# Altium footprint library 110-00315-D_B1-DevKit.PcbLib: 70 footprints (part 5 of 5)
Each footprint in its own frame and in the unit in brackets; x right, y up, seen from the top. Pads: shape width x height; smd on the part's side, far side on the other; paste and mask are expansions set on the pad; w line width, h text height; cw(c..) or ccw(c..) is an arc to the next point about the centre after c.
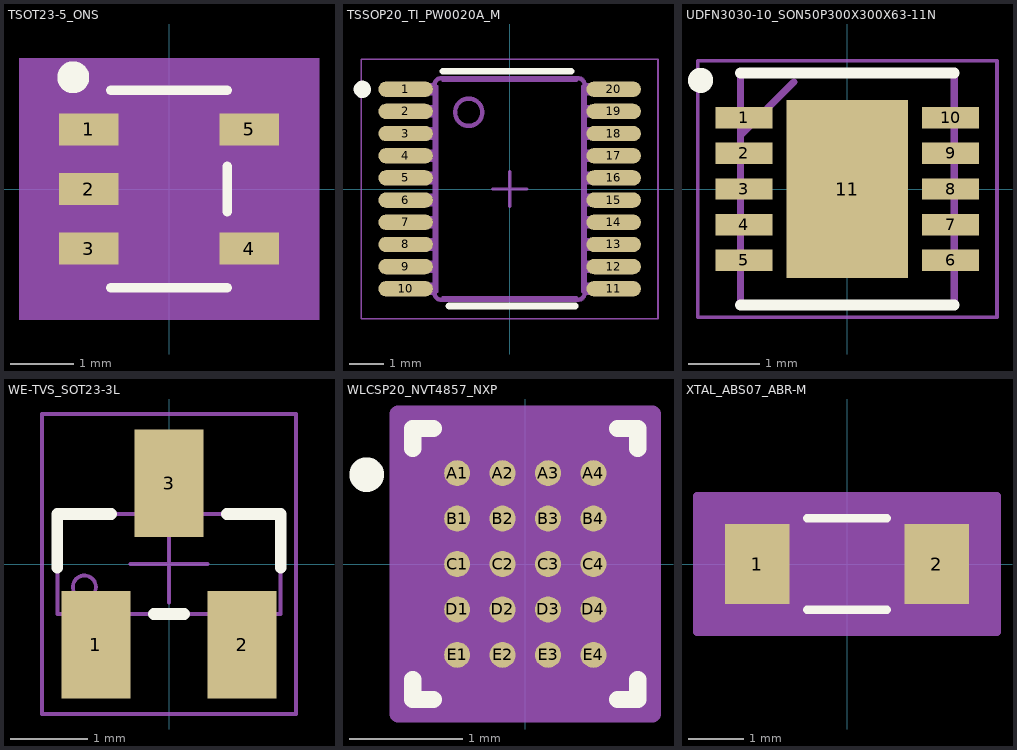
[diagram p4: the footprints below, top view; thin cyan lines are the x and y axes]

## TSOT23-5_ONS [mil]
height 337.8
pads (5):
  rect 37.5x20 smd paste+0 mask+4: 1(-50.25,37.4) 2(-50.25,0) 3(-50.25,-37.4) 4(50.25,-37.4) 5(50.25,37.4)
Top Overlay:
  circle w10: c-60,70 r5
  lines w6: -36.5,-62 36.5,-62 ; -36.5,62 36.5,62 ; 36.5,-14.3 36.5,14.3
Mechanical 5:
  region: 94,-82 -94,-82 -94,82 94,82
Mechanical 13:
  lines w0: -12,57 ccw(c0,57) 12,57
  lines w1: -55,-46.4 -55,-28.4 -31.5,-28.4 -31.5,-46.4 -55,-46.4 ; -55,-9 -55,9 -31.5,9 -31.5,-9 -55,-9 ; -55,28.4 -55,46.4 -31.5,46.4 -31.5,28.4 -55,28.4 ; -31.5,-57 31.5,-57 31.5,57 -31.5,57 -31.5,-57 ; 31.5,-46.4 31.5,-28.4 55,-28.4 55,-46.4 31.5,-46.4 ; 31.5,28.4 31.5,46.4 55,46.4 55,28.4 31.5,28.4
  text "*" at -29,4 h50
Mechanical 15:
  region: -41.5,-57.4 -79,-57.4 -79,57.4 -41.5,57.4 -41.5,67 41.5,67 41.5,57.4 79,57.4 79,-57.4 41.5,-57.4 41.5,-67 -41.5,-67
  lines w6: -79,-57.4 -79,57.4 -41.5,57.4 -41.5,67 41.5,67 41.5,57.4 79,57.4 79,-57.4 41.5,-57.4 41.5,-67 -41.5,-67 -41.5,-57.4 -79,-57.4
3D body "TSOT23-5_ONS.step": height 39.09, standoff 0, extent -55,-57.01 55,57.01
3D body "TSOT23-5_ONS.step": height 39.09, standoff 0, extent -55,-57.01 55,57.01

## TSSOP20_TI_PW0020A_M [mm]
pads (20):
  oval 1.6x0.45 smd paste+0 mask+0.051: 1(-3.05,2.925) 2(-3.05,2.275) 3(-3.05,1.625) 4(-3.05,0.975) 5(-3.05,0.325) 6(-3.05,-0.325) 7(-3.05,-0.975) 8(-3.05,-1.625) 9(-3.05,-2.275) 10(-3.05,-2.925) 11(3.05,-2.925) 12(3.05,-2.275) 13(3.05,-1.625) 14(3.05,-0.975) 15(3.05,-0.325) 16(3.05,0.325) 17(3.05,0.975) 18(3.05,1.625) 19(3.05,2.275) 20(3.05,2.925)
Top Overlay:
  circle w0.254: c-4.318,2.921 r0.127
  lines w0.2: -1.956,3.454 1.803,3.454 ; -1.778,-3.429 1.922,-3.429
Mechanical 13:
  drawing of 254 lines, arcs and shapes, not listed
Mechanical 15:
  lines w0.05: -4.35,-3.8 -4.35,3.8 4.35,3.8 4.35,-3.8 -4.35,-3.8
  lines w0.1: -0.5,0 0.5,0 ; 0,-0.5 0,0.5
3D body "TXB0108PWR.step": height 1.2, standoff 0, extent -3.2,-3.25 3.2,3.25

## UDFN3030-10_SON50P300X300X63-11N [mm] "Diodes Inc U-DFN3030-10"
pads (11):
  rect 0.8x0.3 smd: 1(-1.45,1) 2(-1.45,0.5) 3(-1.45,0) 4(-1.45,-0.5) 5(-1.45,-1) 6(1.45,-1) 7(1.45,-0.5) 8(1.45,0) 9(1.45,0.5) 10(1.45,1)
  rect 1.7x2.5 smd: 11(0,0)
Top Overlay:
  circle w0.25: c-2.057,1.524 r0.051
  lines w0.152: -1.5,-1.626 1.5,-1.626 ; -1.5,1.626 1.5,1.626
Mechanical 13:
  lines w0.1: -1.5,-1.626 -1.5,1.626 ; -1.5,0.75 -0.75,1.5 ; 1.5,-1.626 1.5,1.626
Mechanical 15:
  lines w0.05: -2.1,-1.8 2.1,-1.8 2.1,1.8 -2.1,1.8 -2.1,-1.8
3D body "AP7173-FNG-7.stp": height 0.63, standoff 0, extent -1.55,-1.5 1.55,1.5

## WE-TVS_SOT23-3L [mm] "TVS Diode, package SOT23-3L"
height 1.2
pads (3):
  rect 0.9x1.4 smd: 1(-0.95,-1.05) 2(0.95,-1.05) 3(0,1.05)
Top Overlay:
  lines w0.15: -1.45,-0.05 -1.45,0.65 -0.75,0.65 ; -0.2,-0.65 0.2,-0.65 ; 0.75,0.65 1.45,0.65 1.45,-0.05
Top 3D Body:
  circle w0.05: c-1.1,-0.3 r0.15
  lines w0.05: -1.15,-0.65 -1.15,-1.2 -0.75,-1.2 -0.75,-0.65 ; -0.2,0.65 -0.2,1.2 0.2,1.2 0.2,0.65 ; 0.75,-0.65 0.75,-1.2 1.15,-1.2 1.15,-0.65 ; -1.45,-0.65 -1.45,0.65 1.45,0.65 1.45,-0.65 -1.45,-0.65
Top Assembly:
  circle w0.05: c-1.1,-0.3 r0.15
  lines w0.05: -1.15,-0.65 -1.15,-1.2 -0.75,-1.2 -0.75,-0.65 ; -0.2,0.65 -0.2,1.2 0.2,1.2 0.2,0.65 ; 0.75,-0.65 0.75,-1.2 1.15,-1.2 1.15,-0.65 ; -1.45,-0.65 -1.45,0.65 1.45,0.65 1.45,-0.65 -1.45,-0.65
Top Courtyard:
  lines w0.05: -0.5,0 0.5,0 ; 0,-0.5 0,0.5 ; -1.65,-1.95 -1.65,1.95 1.65,1.95 1.65,-1.95 -1.65,-1.95
3D body "STEP-WE-TVS-SOT23-3L-rev1.stp": height 1.04, standoff 0, extent -1.45,-1.2 1.45,1.2

## WLCSP20_NVT4857_NXP [mil]
pads (20):
  round 9 smd paste+0 mask+0: A1(-23.62,31.5) A2(-7.87,31.5) A3(7.87,31.5) A4(23.62,31.5) B1(-23.62,15.75) B2(-7.87,15.75) B3(7.87,15.75) B4(23.62,15.75) C1(-23.62,0) C2(-7.87,0) C3(7.87,0) C4(23.62,0) D1(-23.62,-15.75) D2(-7.87,-15.75) D3(7.87,-15.75) D4(23.62,-15.75) E1(-23.62,-31.5) E2(-7.87,-31.5) E3(7.87,-31.5) E4(23.62,-31.5)
Top Overlay:
  circle w10: c-55,31 r1
  lines w6: -39,-40.06 -39,-47 -31.95,-47 ; -39,40.06 -39,47 -31.95,47 ; 31.95,-47 39,-47 39,-40.06 ; 31.95,47 39,47 39,40.06
Mechanical 13:
  lines w1: -34,34.13 -26.13,42 ; -34,-42 34,-42 34,42 -34,42 -34,-42
Mechanical 15:
  region: 44,-52 -44,-52 -44,52 44,52
  lines w6: -44,-52 -44,52 44,52 44,-52 -44,-52
3D body "WLCSP20_NVT4857_NXP.step": height 21.1, standoff 0.01, extent -34.02,-42.01 34.02,42.01

## XTAL_ABS07_ABR-M [mil]
height 337.8
pads (2):
  rect 46x57 smd paste+0: 1(-64,0) 2(64,0)
Top Overlay:
  lines w6: -28.53,-32.5 28.53,-32.5 ; -28.53,32.5 28.53,32.5
Mechanical 5:
  region: 102,-43.5 -102,-43.5 -102,43.5 102,43.5
Mechanical 13:
  circle w0: c-59,0 r3
  lines w1: -65,-27.5 -65,27.5 ; -65,-27.5 -41,-27.5 -41,27.5 -65,27.5 ; -65,-27.5 65,-27.5 ; -65,-27.5 -65,27.5 ; -65,27.5 65,27.5 ; 65,-27.5 41,-27.5 41,27.5 65,27.5 ; 65,-27.5 65,27.5 ; 65,-27.5 65,27.5
Mechanical 15:
  region: 107,-48.5 -107,-48.5 -107,48.5 107,48.5
  lines w6: -107,-48.5 -107,48.5 107,48.5 107,-48.5 -107,-48.5
3D body "XTAL_ABS07_ABR.step": height 35, standoff 0, extent -65,-27.48 65,27.48